# EAGLE library part GEN_6 (library bschulz)
Generic 6 Pin Package for Breakout Boards
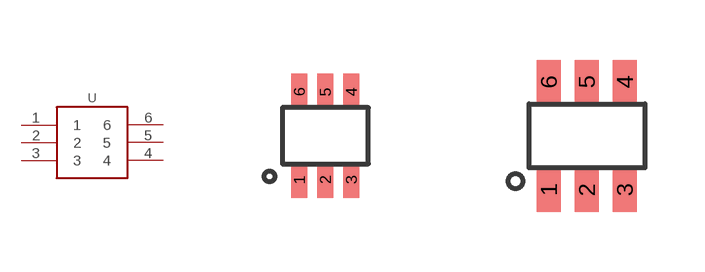
[diagram p96: symbol with the pads of DCK_R-PDSO-G6; footprints DCK_R-PDSO-G6, DDC_R-PDSO-G6]

Designator prefix U

## GEN_6SC-70  [DCK_R-PDSO-G6]
1  1
2  2
3  3
4  4
5  5
6  6

## GEN_6SOT-23  [DDC_R-PDSO-G6]
Pads as for DCK_R-PDSO-G6

## GEN_6DFN_2X2  [DFN_6_2X2]
Pads as for DCK_R-PDSO-G6

## Footprint DCK_R-PDSO-G6 (pad centres in mm)
smd 0.4 x 0.9: 1 -0.65,-1.1; 2 0,-1.1; 3 0.65,-1.1; 4 0.65,1.1; 5 0,1.1; 6 -0.65,1.1

## Footprint DDC_R-PDSO-G6 (pad centres in mm)
smd 0.6 x 1.1: 1 -0.95,-1.35; 2 0,-1.35; 3 0.95,-1.35; 4 0.95,1.35; 5 0,1.35; 6 -0.95,1.35

## Footprint DFN_6_2X2 (pad centres in mm)
DFN, 6 pin, 2x2mm, 0.65mm Pitch, Thin, MT
smd 0.26 x 0.4: 1 -0.65,-0.9; 2 0,-0.9; 3 0.65,-0.9; 4 0.65,0.9; 5 0,0.9; 6 -0.65,0.9
smd 1.3 x 0.8: PAD 0,0
drill 0.254 pad 0.305: PAD@1 0,0